# EAGLE library part LM25118Q1MH/NOPB (library micro-texas-instruments)
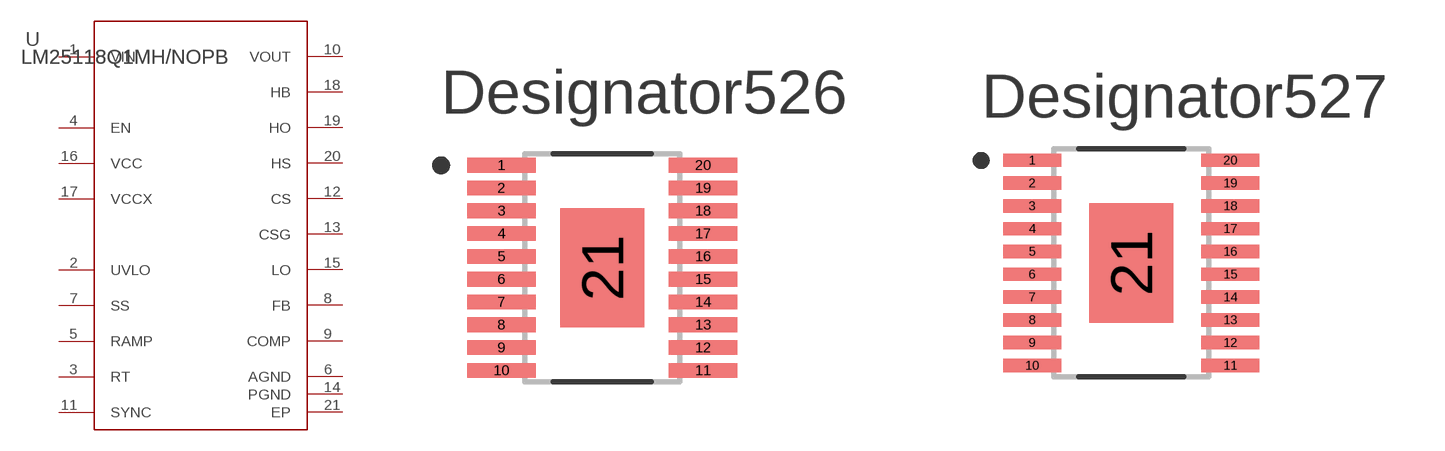
[diagram p1: symbol with the pads of PWP0020A-IPC_A; footprints PWP0020A-IPC_A, PWP0020A-IPC_B]

Designator prefix U

## LM25118Q1MH/NOPB (COPYRIGHT: Copyright (C) 2022 Ultra Librarian. All rights reserved.; MANUFACTURER_PART_NUMBER: LM25118Q1MH/NOPB; MFR_NAME: Texas Instruments; REFDES: RefDes; TYPE: TYPE)  [PWP0020A-IPC_A]
1  VIN  pwr
2  UVLO  in
3  RT  pas
4  EN  in
5  RAMP  pas
6  AGND  pwr
7  SS  pas
8  FB  pas
9  COMP  pas
10  VOUT  pwr
11  SYNC  in
12  CS  pas
13  CSG  pas
14  PGND  pwr
15  LO  pas
16  VCC  pas
17  VCCX  pas
18  HB  pas
19  HO  pas
20  HS  pas
21  EP  pas

## LM25118Q1MH/NOPBPWP0020A-IPC_B (COPYRIGHT: Copyright (C) 2022 Ultra Librarian. All rights reserved.; MANUFACTURER_PART_NUMBER: LM25118Q1MH/NOPB; MFR_NAME: Texas Instruments; REFDES: RefDes; TYPE: TYPE)  [PWP0020A-IPC_B]
Pads as for PWP0020A-IPC_A

## LM25118Q1MH/NOPBPWP0020A-IPC_C (COPYRIGHT: Copyright (C) 2022 Ultra Librarian. All rights reserved.; MANUFACTURER_PART_NUMBER: LM25118Q1MH/NOPB; MFR_NAME: Texas Instruments; REFDES: RefDes; TYPE: TYPE)  [PWP0020A-IPC_C]
Pads as for PWP0020A-IPC_A

## LM25118Q1MH/NOPBPWP0020A-MFG (COPYRIGHT: Copyright (C) 2022 Ultra Librarian. All rights reserved.; MANUFACTURER_PART_NUMBER: LM25118Q1MH/NOPB; MFR_NAME: Texas Instruments; REFDES: RefDes; TYPE: TYPE)  [PWP0020A-MFG]
Pads as for PWP0020A-IPC_A

## Footprint PWP0020A-IPC_A (pad centres in mm)
smd 1.955 x 0.421: 1 -2.875,2.925; 2 -2.875,2.275; 3 -2.875,1.625; 4 -2.875,0.975; 5 -2.875,0.325; 6 -2.875,-0.325; 7 -2.875,-0.975; 8 -2.875,-1.625; 9 -2.875,-2.275; 10 -2.875,-2.925; 11 2.875,-2.925; 12 2.875,-2.275; 13 2.875,-1.625; 14 2.875,-0.975; 15 2.875,-0.325; 16 2.875,0.325; 17 2.875,0.975; 18 2.875,1.625; 19 2.875,2.275; 20 2.875,2.925
smd 2.4 x 3.4: 21 0,0

## Footprint PWP0020A-IPC_B (pad centres in mm)
smd 1.655 x 0.381: 1 -2.825,2.925; 2 -2.825,2.275; 3 -2.825,1.625; 4 -2.825,0.975; 5 -2.825,0.325; 6 -2.825,-0.325; 7 -2.825,-0.975; 8 -2.825,-1.625; 9 -2.825,-2.275; 10 -2.825,-2.925; 11 2.825,-2.925; 12 2.825,-2.275; 13 2.825,-1.625; 14 2.825,-0.975; 15 2.825,-0.325; 16 2.825,0.325; 17 2.825,0.975; 18 2.825,1.625; 19 2.825,2.275; 20 2.825,2.925
smd 2.4 x 3.4: 21 0,0

## Footprint PWP0020A-IPC_C (pad centres in mm)
smd 1.355 x 0.341: 1 -2.775,2.925; 2 -2.775,2.275; 3 -2.775,1.625; 4 -2.775,0.975; 5 -2.775,0.325; 6 -2.775,-0.325; 7 -2.775,-0.975; 8 -2.775,-1.625; 9 -2.775,-2.275; 10 -2.775,-2.925; 11 2.775,-2.925; 12 2.775,-2.275; 13 2.775,-1.625; 14 2.775,-0.975; 15 2.775,-0.325; 16 2.775,0.325; 17 2.775,0.975; 18 2.775,1.625; 19 2.775,2.275; 20 2.775,2.925
smd 2.4 x 3.4: 21 0,0

## Footprint PWP0020A-MFG (pad centres in mm)
smd 1.6 x 0.3: 1 -2.8,2.925; 2 -2.8,2.275; 3 -2.8,1.625; 4 -2.8,0.975; 5 -2.8,0.325; 6 -2.8,-0.325; 7 -2.8,-0.975; 8 -2.8,-1.625; 9 -2.8,-2.275; 10 -2.8,-2.925; 11 2.8,-2.925; 12 2.8,-2.275; 13 2.8,-1.625; 14 2.8,-0.975; 15 2.8,-0.325; 16 2.8,0.325; 17 2.8,0.975; 18 2.8,1.625; 19 2.8,2.275; 20 2.8,2.925
smd 3.4 x 6.5: 21 0,0
drill 0.305 pad 0.61: 22 0,-2.591; 23 0,-1.295; 24 0.025,0; 25 0,1.295; 26 0,2.591; 27 1.295,-2.591; 28 1.295,-1.295; 29 1.295,0; 30 1.295,1.295; 31 1.295,2.591; 32 -1.295,-2.591; 33 -1.295,-1.295; 34 -1.295,0; 35 -1.295,1.295; 36 -1.295,2.591